# EAGLE library part MCP23017 (library Portxexpander)
Name des Bauteiles: -->MCP23017 Daten:• 16-bit remote bidirectional I/O port - I/O pins default to input • High-speed I2C™ interface (MCP23017) - 100 kHz - 400 kHz - 1.7MHz • High-speed SPI interface (MCP23S17) - 10 MHz (max.) • Three hardware address pins to allow up to eight devices on the bus • Configurable interrupt output pins - Configurable as active-high, active-low or open-drain • INTA and INTB can be configured to operate independently or together • Configurable interrupt source - Interrupt-on-change from configured register defaults or pin changes • Polarity Inversion register to configure the polarity of the input port data • External Reset input • Low standby current: 1 μA (max.) • Operating voltage: - 1.8V to 5.5V @ -40°C to +85°C - 2.7V to 5.5V @ -40°C to +85°C - 4.5V to 5.5V @ -40°C to +125°CDaten? Artikelnummer:#keine feste Artikelnummer vorhanden / Atikel nicht lagermäßig vorhanden! Datenblatt:http://ww1.microchip.com/downloads/en/DeviceDoc/21952b.pdf __________________________________________ generated by Eagle Description Tool am : 13.11.2014 08:52:18 erstellt von: Hm
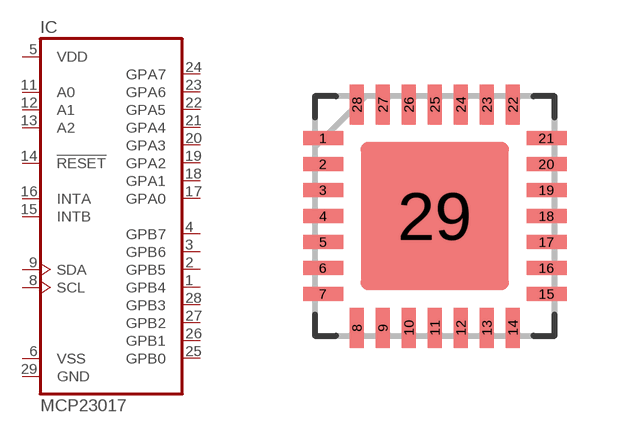
[diagram p2: symbol with the pads of QFN28; footprint QFN28]

Designator prefix IC

## MCP23017E/ML  [QFN28]
1  GPB4
2  GPB5
3  GPB6
4  GPB7
5  VDD  pwr
6  VSS  pwr
8  SCL  in
9  SDA
11  A0
12  A1
13  A2
14  !RESET!
15  INTB
16  INTA
17  GPA0
18  GPA1
19  GPA2
20  GPA3
21  GPA4
22  GPA5
23  GPA6
24  GPA7
25  GPB0
26  GPB1
27  GPB2
28  GPB3
29  GND  sup

## Footprint QFN28 (pad centres in mm)
smd 1 x 0.36: 1 -2.794,1.95; 2 -2.794,1.3; 3 -2.794,0.65; 4 -2.794,0; 5 -2.794,-0.65; 6 -2.794,-1.3; 7 -2.794,-1.95; 15 2.794,-1.95; 16 2.794,-1.3; 17 2.794,-0.65; 18 2.794,0; 19 2.794,0.65; 20 2.794,1.3; 21 2.794,1.95
smd 0.36 x 1: 8 -1.95,-2.794; 9 -1.3,-2.794; 10 -0.65,-2.794; 11 0,-2.794; 12 0.65,-2.794; 13 1.3,-2.794; 14 1.95,-2.794; 22 1.95,2.794; 23 1.3,2.794; 24 0.65,2.794; 25 0,2.794; 26 -0.65,2.794; 27 -1.3,2.794; 28 -1.95,2.794
smd 3.7 x 3.7: 29 0,0